# EAGLE library part PIN-DIODE-SWITCH_SPDT (library 1A-meinLib)
50 Ohm Switch, SPDT, DC..4.6GHz, Mini-Circuits
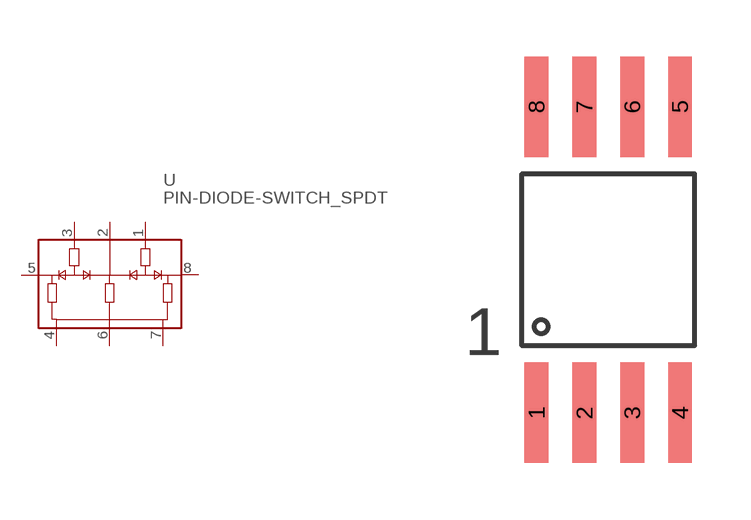
[diagram p15: symbol with the pads of MC_XX112; footprint MC_XX112]

Designator prefix U

## PIN-DIODE-SWITCH_SPDT  [MC_XX112]
1  1  pas
2  2  pas
3  3  pas
4  4  pas
5  5  pas
6  6  pas
7  7  pas
8  8  pas

## Footprint MC_XX112 (pad centres in mm)
smd 0.635 x 2.667: 1 -1.905,-4.064; 2 -0.635,-4.064; 3 0.635,-4.064; 4 1.905,-4.064; 5 1.905,4.064; 6 0.635,4.064; 7 -0.635,4.064; 8 -1.905,4.064